# EAGLE library part PINHD-1X8 (library HelaTronix - Connectors)
PIN HEADER
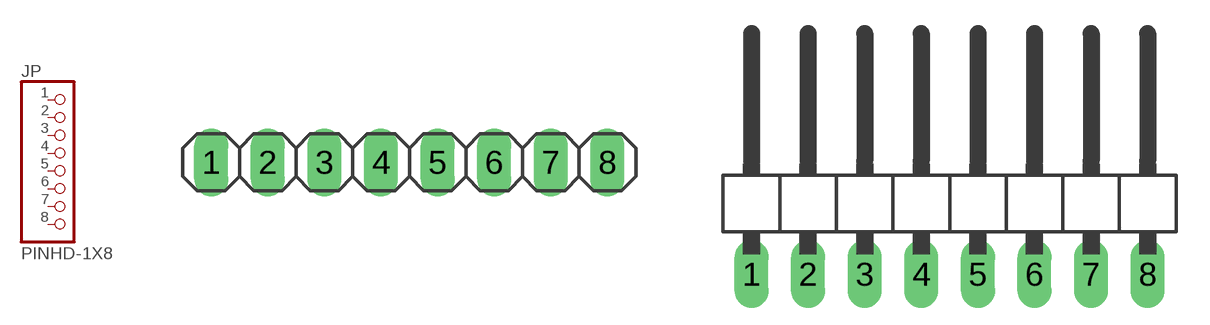
[diagram p9: symbol with the pads of 1X08; footprints 1X08, 1X08/90]

Designator prefix JP

## PINHD-1X8/180  [1X08]
1  1  pas
2  2  pas
3  3  pas
4  4  pas
5  5  pas
6  6  pas
7  7  pas
8  8  pas

## PINHD-1X8/90  [1X08/90]
Pads as for 1X08

## PINHD-1X8-XH  [B8B-XH-A]
Pads as for 1X08

## PINHD-1X8WJ15EDGVC  [WJ15EDGVC-3.81-8P]
Pads as for 1X08

## PINHD-1X8/WJ2EDGVC-5.08  [WJ2EDGVC-5.08-8P]
Pads as for 1X08

## PINHD-1X8-KF2EDGR-2.54  [KF2EDGR-2.54-8P]
Pads as for 1X08

## PINHD-1X8/WJ2EDGRC-5.08  [WJ2EDGRC-5.08-8P]
Pads as for 1X08

## Footprint 1X08 (pad centres in mm)
PIN HEADER
drill 1.016 long: 1 -8.89,0; 2 -6.35,0; 3 -3.81,0; 4 -1.27,0; 5 1.27,0; 6 3.81,0; 7 6.35,0; 8 8.89,0

## Footprint 1X08/90 (pad centres in mm)
PIN HEADER
drill 1.016 long: 1 -8.89,-3.81; 2 -6.35,-3.81; 3 -3.81,-3.81; 4 -1.27,-3.81; 5 1.27,-3.81; 6 3.81,-3.81; 7 6.35,-3.81; 8 8.89,-3.81

## Footprint B8B-XH-A (pad centres in mm)
drill 1 long: 1 -8.89,0; 2 -6.35,0; 3 -3.81,0; 4 -1.27,0; 5 1.27,0; 6 3.81,0; 7 6.35,0; 8 8.89,0

## Footprint WJ15EDGVC-3.81-8P (pad centres in mm)
drill 1.2 long: 1 -13.335,0; 2 -9.525,0; 3 -5.715,0; 4 -1.905,0; 5 1.905,0; 6 5.715,0; 7 9.525,0; 8 13.335,0

## Footprint WJ2EDGVC-5.08-8P (pad centres in mm)
drill 1.6 long: 1 -17.78,0; 2 -12.7,0; 3 -7.62,0; 4 -2.54,0; 5 2.54,0; 6 7.62,0; 7 12.7,0; 8 17.78,0

## Footprint KF2EDGR-2.54-8P (pad centres in mm)
Male KF2EDGK-2.54 Female 90 KF2EDGR-2.54
drill 1 long: 1 -8.89,0; 2 -6.35,0; 3 -3.81,0; 4 -1.27,0; 5 1.27,0; 6 3.81,0; 7 6.35,0; 8 8.89,0

## Footprint WJ2EDGRC-5.08-8P (pad centres in mm)
Male - WJ2EDGK-5.08 Female 90 - WJ2EDGRC-5.08
drill 1.6 long: 1 -17.78,0; 2 -12.7,0; 3 -7.62,0; 4 -2.54,0; 5 2.54,0; 6 7.62,0; 7 12.7,0; 8 17.78,0